# Altium footprint library HTSSOP16_45x66x20_M.PcbLib: 1 footprints
Each footprint in its own frame and in the unit in brackets; x right, y up, seen from the top. Pads: shape width x height; smd on the part's side, far side on the other; paste and mask are expansions set on the pad; w line width, h text height; cw(c..) or ccw(c..) is an arc to the next point about the centre after c.
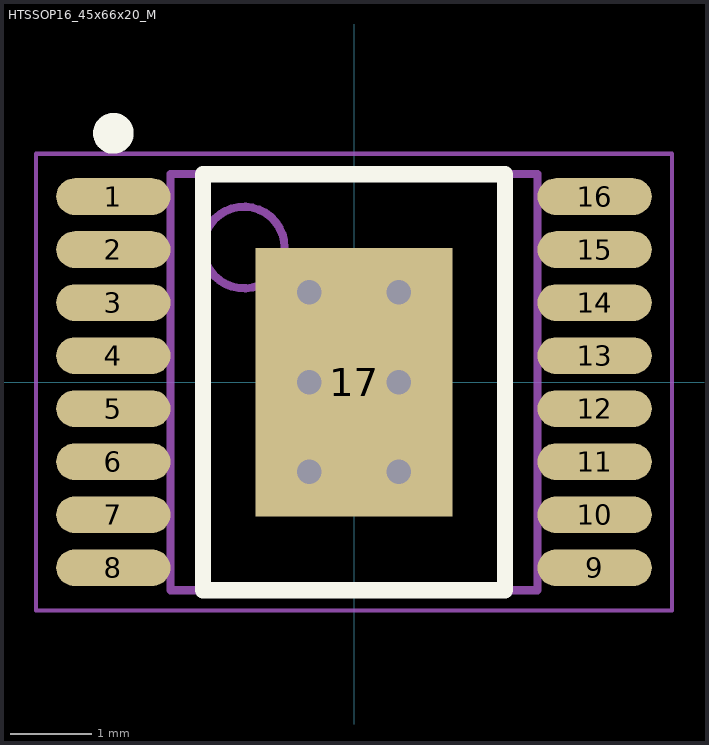
[diagram p0: the footprint, top view; thin cyan lines are the x and y axes]

## HTSSOP16_45x66x20_M [mm] "TSOP, 16-Leads, Body 5,00x4,40mm, Pitch 0,65mm, Thermal Pad 3,29x2,41mm, IPC Medium Density"
height 1.2
pads (17):
  oval 1.4x0.45 smd: 1(-2.95,2.275) 2(-2.95,1.625) 3(-2.95,0.975) 4(-2.95,0.325) 5(-2.95,-0.325) 6(-2.95,-0.975) 7(-2.95,-1.625) 8(-2.95,-2.275) 9(2.95,-2.275) 10(2.95,-1.625) 11(2.95,-0.975) 12(2.95,-0.325) 13(2.95,0.325) 14(2.95,0.975) 15(2.95,1.625) 16(2.95,2.275)
  rect 2.41x3.29 smd: 17(0,0)
via -0.55,1.1 diameter 0.8 hole 0.3
via 0.55,1.1 diameter 0.8 hole 0.3
via -0.55,0 diameter 0.8 hole 0.3
via 0.55,0 diameter 0.8 hole 0.3
via -0.55,-1.1 diameter 0.8 hole 0.3
via 0.55,-1.1 diameter 0.8 hole 0.3
Top Overlay:
  circle w0.25: c-2.95,3.05 r0.125
  lines w0.2: -1.85,-2.55 -1.85,2.55 1.85,2.55 1.85,-2.55 -1.85,-2.55
Mechanical 13:
  circle w0.1: c-1.35,1.65 r0.5
  lines w0.1: -2.25,-2.55 -2.25,2.55 2.25,2.55 2.25,-2.55 -2.25,-2.55
Mechanical 15:
  lines w0.05: -3.9,-2.8 -3.9,2.8 3.9,2.8 3.9,-2.8 -3.9,-2.8
  lines w0.1: -0.5,0 0.5,0 ; 0,-0.5 0,0.5
Mechanical 17:
  text "'.Designator'" at -1.143,-0.254 h0.64
Mechanical 19:
  text "'.Comment'" at -1.016,-0.254 h0.64
3D body "TSSOP65P640X120-16N.STEP": height 1.2, standoff 0, extent -3.275,-2.583 3.225,2.517